# EAGLE library part LED-APA102 (library SPCoast)
SparkFun Accessories SMD LED - RGB APA102-2020 Source: Datasheet <https://componentsearchengine.com/Datasheets/1/COM-14608.pdf>
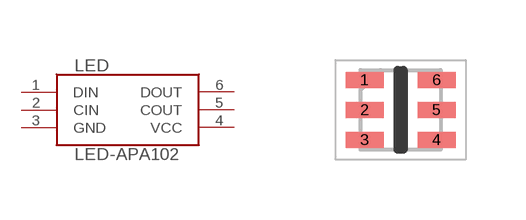
[diagram p71: symbol with the pads of APA102; footprint APA102]

Designator prefix LED

## LED-APA102 (DESCRIPTION: SparkFun Accessories SMD LED - RGB APA102-2020; HEIGHT: 1mm; MANUFACTURER_NAME: SparkFun; MANUFACTURER_PART_NUMBER: COM-14608; MOUSER_PART_NUMBER: 474-COM-14608; MOUSER_PRICE-STOCK: https://www.mouser.com/Search/Refine.aspx?Keyword=474-COM-14608)  [APA102]
1  DIN  in
2  CIN  in
3  GND  pwr
4  VCC  pwr
5  COUT  out
6  DOUT  out

## Footprint APA102 (pad centres in mm)
COM-14608
smd 0.95 x 0.4: 1 -0.9,0.75; 2 -0.9,0; 3 -0.9,-0.75; 4 0.9,-0.75; 5 0.9,0; 6 0.9,0.75